# EAGLE library part ESP8285 (library nixiemisc)
The ESP8285
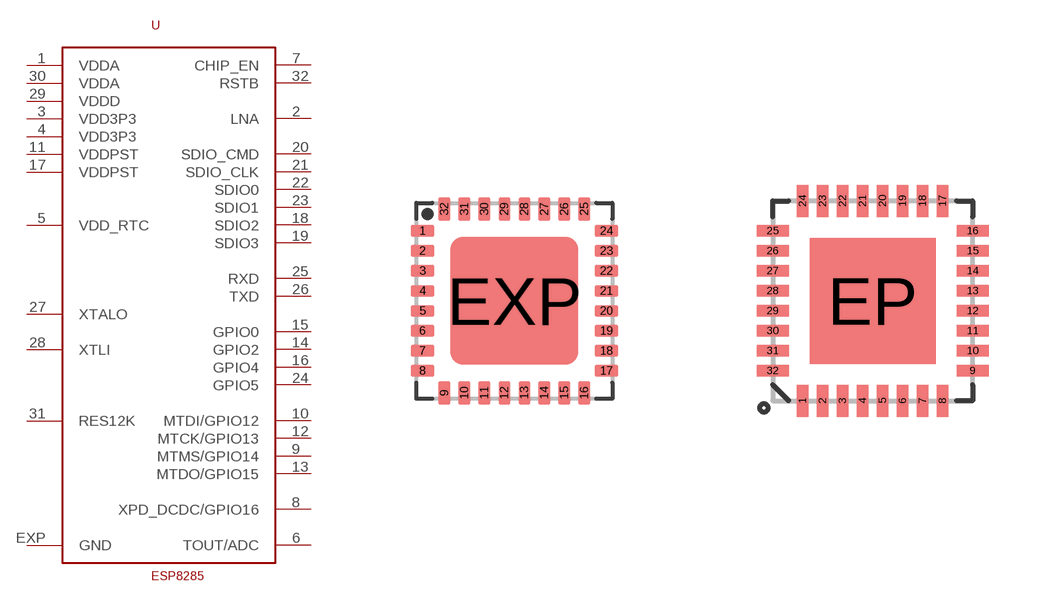
[diagram p4: symbol with the pads of QFN32; footprints QFN32, QFN-32]

Designator prefix U

## ESP8285QFN32  [QFN32]
1  VDDA  pwr
2  LNA
3  VDD3P3  pwr
4  VDD3P3  pwr
5  VDD_RTC  nc
6  TOUT/ADC  in
7  CHIP_EN  in
8  XPD_DCDC/GPIO16
9  MTMS/GPIO14
10  MTDI/GPIO12
11  VDDPST  pwr
12  MTCK/GPIO13
13  MTDO/GPIO15
14  GPIO2
15  GPIO0
16  GPIO4
17  VDDPST  pwr
18  SDIO2
19  SDIO3
20  SDIO_CMD
21  SDIO_CLK
22  SDIO0
23  SDIO1
24  GPIO5
25  RXD
26  TXD
27  XTALO
28  XTLI
29  VDDD  pwr
30  VDDA  pwr
31  RES12K  in
32  RSTB  in
EXP  GND  pwr

## ESP8285PHYSICALSYMBOL  [QFN32]
Pads as for QFN32

## ESP8285QFN-32  [QFN-32]
1  VDDA  pwr
2  LNA
3  VDD3P3  pwr
4  VDD3P3  pwr
5  VDD_RTC  nc
6  TOUT/ADC  in
7  CHIP_EN  in
8  XPD_DCDC/GPIO16
9  MTMS/GPIO14
10  MTDI/GPIO12
11  VDDPST  pwr
12  MTCK/GPIO13
13  MTDO/GPIO15
14  GPIO2
15  GPIO0
16  GPIO4
17  VDDPST  pwr
18  SDIO2
19  SDIO3
20  SDIO_CMD
21  SDIO_CLK
22  SDIO0
23  SDIO1
24  GPIO5
25  RXD
26  TXD
27  XTALO
28  XTLI
29  VDDD  pwr
30  VDDA  pwr
31  RES12K  in
32  RSTB  in
EP  GND  pwr

## Footprint QFN32 (pad centres in mm)
QFN 32 Source: http://www.ftdichip.com/Documents/DataSheets/DS_FT232R_v104.pdf
smd 0.6 x 0.3: 1 -2.3,1.75; 2 -2.3,1.25; 3 -2.3,0.75; 4 -2.3,0.25; 5 -2.3,-0.25; 6 -2.3,-0.75; 7 -2.3,-1.25; 8 -2.3,-1.75; 17 2.3,-1.75; 18 2.3,-1.25; 19 2.3,-0.75; 20 2.3,-0.25; 21 2.3,0.25; 22 2.3,0.75; 23 2.3,1.25; 24 2.3,1.75
smd 0.3 x 0.6: 9 -1.75,-2.3; 10 -1.25,-2.3; 11 -0.75,-2.3; 12 -0.25,-2.3; 13 0.25,-2.3; 14 0.75,-2.3; 15 1.25,-2.3; 16 1.75,-2.3; 25 1.75,2.3; 26 1.25,2.3; 27 0.75,2.3; 28 0.25,2.3; 29 -0.25,2.3; 30 -0.75,2.3; 31 -1.25,2.3; 32 -1.75,2.3
smd 3.2 x 3.2: EXP 0,0

## Footprint QFN-32 (pad centres in mm)
QFN 32-Pin package w/ Thermal Pad ***Unproven*** Applicable Parts: TLC5940
smd 0.285 x 0.8: 1 -1.75,-2.5; 2 -1.25,-2.5; 3 -0.75,-2.5; 4 -0.25,-2.5; 5 0.25,-2.5; 6 0.75,-2.5; 7 1.25,-2.5; 8 1.75,-2.5; 17 1.75,2.5; 18 1.25,2.5; 19 0.75,2.5; 20 0.25,2.5; 21 -0.25,2.5; 22 -0.75,2.5; 23 -1.25,2.5; 24 -1.75,2.5
smd 0.8 x 0.285: 9 2.5,-1.75; 10 2.5,-1.25; 11 2.5,-0.75; 12 2.5,-0.25; 13 2.5,0.25; 14 2.5,0.75; 15 2.5,1.25; 16 2.5,1.75; 25 -2.5,1.75; 26 -2.5,1.25; 27 -2.5,0.75; 28 -2.5,0.25; 29 -2.5,-0.25; 30 -2.5,-0.75; 31 -2.5,-1.25; 32 -2.5,-1.75
smd 3.15 x 3.15: EP 0,0